# Altium footprint library CINCH_30_Conn.PcbLib: 1 footprints
Each footprint in its own frame and in the unit in brackets; x right, y up, seen from the top. Pads: shape width x height; smd on the part's side, far side on the other; paste and mask are expansions set on the pad; w line width, h text height; cw(c..) or ccw(c..) is an arc to the next point about the centre after c.
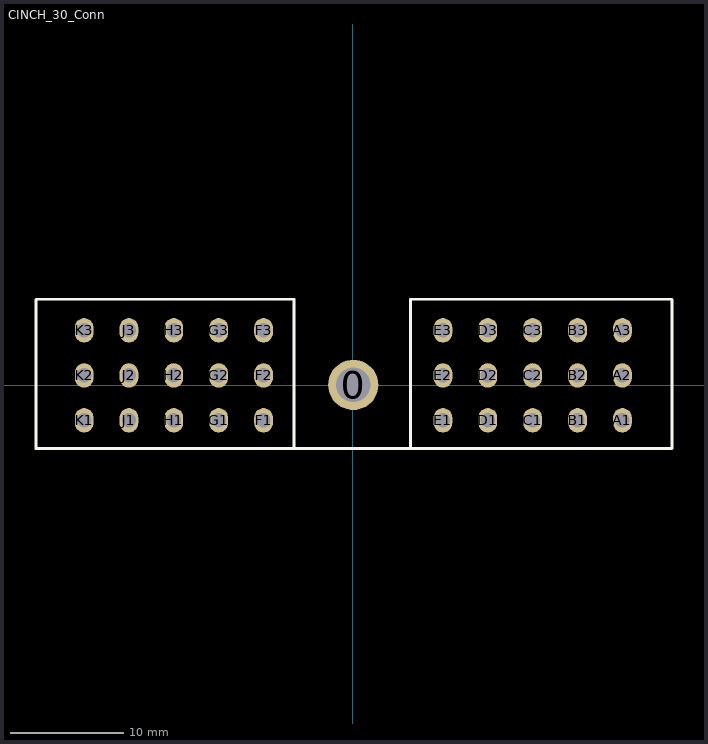
[diagram p0: the footprint, top view; thin cyan lines are the x and y axes]

## CINCH_30_Conn [mil] "30 Pin Cinch Connector"
pads (31):
  round 175 hole 120: 0(1,1)
  oval 65x85 hole 50: A1(937,-122) A2(937,34) A3(937,191) B1(781,-122) B2(781,34) B3(781,191) C1(625,-122) C2(625,34) C3(625,191) D1(469,-122) D2(469,34) D3(469,191) E1(313,-122) E2(313,34) E3(313,191) F1(-311,-122) F2(-311,34) F3(-311,191) G1(-467,-122) G2(-467,34) G3(-467,191) H1(-623,-122) H2(-623,34) H3(-623,191) J1(-779,-122) J2(-779,34) J3(-779,191) K1(-935,-122) K2(-935,34) K3(-935,191)
Top Overlay:
  lines w10: -1102.9,-221 -1101.9,-220 ; -1102.9,-219 -1101.9,-220 ; -205,-217 -205,299 -1100.9,299 -1101.9,298 -1101.9,-220 ; 200,-218 200,299 ; 200.1,299 1107.1,299 1110.1,296 1110.1,-220 -1101.9,-220
3D body: height 1048.87, standoff -578.87, extent -2491.11,-225.61 2493.09,1465.99